# Altium footprint library RES_390.PcbLib: 3 footprints
Each footprint in its own frame and in the unit in brackets; x right, y up, seen from the top. Pads: shape width x height; smd on the part's side, far side on the other; paste and mask are expansions set on the pad; w line width, h text height; cw(c..) or ccw(c..) is an arc to the next point about the centre after c.
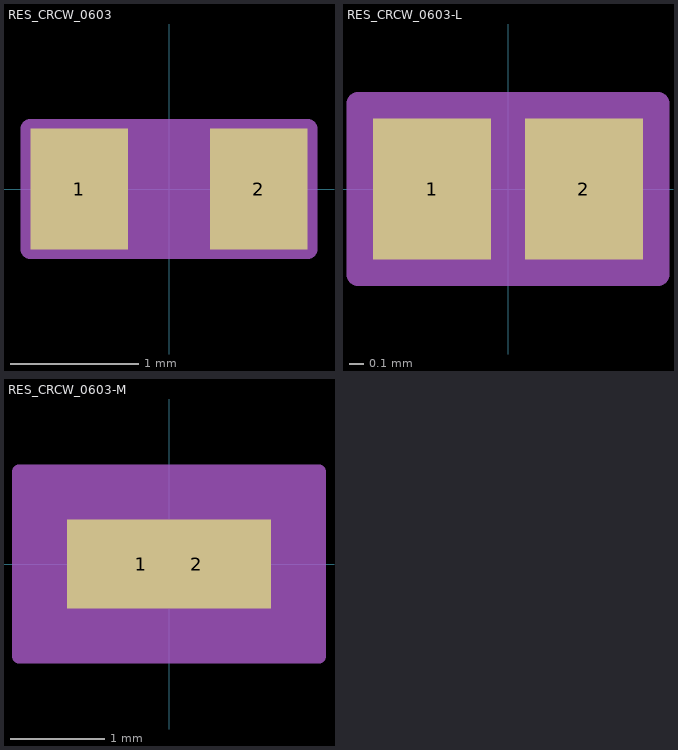
[diagram p0: the footprints below, top view; thin cyan lines are the x and y axes]

## RES_CRCW_0603 [mil]
pads (2):
  rect 30x37 smd paste+0 mask+0: 1(-27.5,0) 2(27.5,0)
Mechanical 13:
  lines w1: -32.5,-18.5 -32.5,18.5 32.5,18.5 32.5,-18.5 -32.5,-18.5
Mechanical 15:
  region: -32.5,-18.5 -42.5,-18.5 -42.5,18.5 -32.5,18.5 32.5,18.5 42.5,18.5 42.5,-18.5 32.5,-18.5
  lines w6: -42.5,-18.5 -32.5,-18.5 32.5,-18.5 42.5,-18.5 42.5,18.5 32.5,18.5 -32.5,18.5 -42.5,18.5 -42.5,-18.5
3D body: height 114.17, standoff -114.17, extent 10,5 10,5
3D body: height 10, standoff 0, extent -30,-20 30,20

## RES_CRCW_0603-L [mil]
pads (2):
  rect 31x37 smd paste+0 mask+0: 1(-20,0) 2(20,0)
Mechanical 13:
  lines w1: -32.5,-18.5 -32.5,18.5 32.5,18.5 32.5,-18.5 -32.5,-18.5
Mechanical 15:
  region: -36.5,-22.5 -39.5,-22.5 -39.5,22.5 -36.5,22.5 36.5,22.5 39.5,22.5 39.5,-22.5 36.5,-22.5
  lines w6: -39.5,-22.5 -36.5,-22.5 36.5,-22.5 39.5,-22.5 39.5,22.5 36.5,22.5 -36.5,22.5 -39.5,22.5 -39.5,-22.5
3D body: height 10, standoff 0, extent -30,-20 30,20

## RES_CRCW_0603-M [mil]
pads (2):
  rect 62x37 smd paste+0 mask+0: 1(-11.5,0) 2(11.5,0)
Mechanical 13:
  lines w1: -32.5,-18.5 -32.5,18.5 32.5,18.5 32.5,-18.5 -32.5,-18.5
Mechanical 15:
  region: -52.5,-38.5 -62.5,-38.5 -62.5,38.5 -52.5,38.5 52.5,38.5 62.5,38.5 62.5,-38.5 52.5,-38.5
  lines w6: -62.5,-38.5 -52.5,-38.5 52.5,-38.5 62.5,-38.5 62.5,38.5 52.5,38.5 -52.5,38.5 -62.5,38.5 -62.5,-38.5
3D body: height 10, standoff 0, extent -40,-20 40,20